# Altium schematic symbol library WE-PF.SchLib: 9 symbols
Pins are listed as number, name and electrical type; pins without a type are passive.

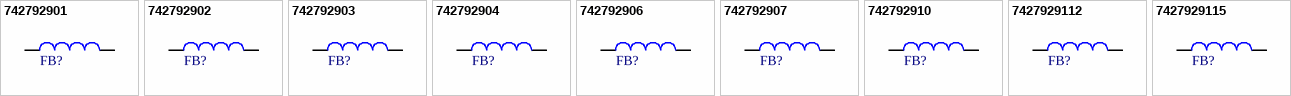
[diagram p0: symbols 742792901 to 7427929115]

## 742792901
designator FB?, comment 2900Ohm  (value not drawn)
WE-PF SMT EMI Suppression Power Ferrite, size 1280, 2900Ohm, 10A; Manufacturer Part Number: 742792901; Manufacturer: Wurth Elektronik; Case/Size Code: 1280; DC Resistance Max: 9mOhm; Impedance Max Test Condition: 90MHz; Category: Ferrites for PCB Assembly; Match Code: WE-PF; ComponentLink1Description: Website Link; ComponentLink1URL: https://www.we-online.com/redexpert/article/742792901?ad; ComponentLink2Description: Datasheet Link; ComponentLink2URL: https://www.we-online.com/redexpert/spec/742792901?ad; Mount: Surface Mount; Operating Temperature Max: 125°C; Operating Temperature Min: -40°C; Packaging: Tape and Reel; Length: 12mm; Width: 12mm; Height: 8mm; Impedance Max: 2900Ohm; Rated Current: 10A
footprint WE-PF_1280
simulation model 1280_742792901_1180ohm
pins: 1, 2

## 742792902
designator FB?, comment 5000Ohm  (value not drawn)
WE-PF SMT EMI Suppression Power Ferrite, size 1280, 5000Ohm, 8A; Manufacturer Part Number: 742792902; Manufacturer: Wurth Elektronik; Case/Size Code: 1280; DC Resistance Max: 12mOhm; Impedance Max Test Condition: 70MHz; Category: Ferrites for PCB Assembly; Match Code: WE-PF; ComponentLink1Description: Website Link; ComponentLink1URL: https://www.we-online.com/redexpert/article/742792902?ad; ComponentLink2Description: Datasheet Link; ComponentLink2URL: https://www.we-online.com/redexpert/spec/742792902?ad; Mount: Surface Mount; Operating Temperature Max: 125°C; Operating Temperature Min: -40°C; Packaging: Tape and Reel; Length: 12mm; Width: 12mm; Height: 8mm; Impedance Max: 5000Ohm; Rated Current: 8A
footprint WE-PF_1280
simulation model 1280_742792902_565ohm
pins: 1, 2

## 742792903
designator FB?, comment 6000Ohm  (value not drawn)
WE-PF SMT EMI Suppression Power Ferrite, size 1280, 6000Ohm, 10A; Manufacturer Part Number: 742792903; Manufacturer: Wurth Elektronik; Case/Size Code: 1280; DC Resistance Max: 9mOhm; Impedance Max Test Condition: 37MHz; Category: Ferrites for PCB Assembly; Match Code: WE-PF; ComponentLink1Description: Website Link; ComponentLink1URL: https://www.we-online.com/redexpert/article/742792903?ad; ComponentLink2Description: Datasheet Link; ComponentLink2URL: https://www.we-online.com/redexpert/spec/742792903?ad; Mount: Surface Mount; Operating Temperature Max: 125°C; Operating Temperature Min: -40°C; Packaging: Tape and Reel; Length: 12mm; Width: 12mm; Height: 8mm; Impedance Max: 6000Ohm; Rated Current: 10A
footprint WE-PF_1280
simulation model 1280_742792903_340ohm
pins: 1, 2

## 742792904
designator FB?, comment 7000Ohm  (value not drawn)
WE-PF SMT EMI Suppression Power Ferrite, size 1280, 7000Ohm, 7A; Manufacturer Part Number: 742792904; Manufacturer: Wurth Elektronik; Case/Size Code: 1280; DC Resistance Max: 15mOhm; Impedance Max Test Condition: 30MHz; Category: Ferrites for PCB Assembly; Match Code: WE-PF; ComponentLink1Description: Website Link; ComponentLink1URL: https://www.we-online.com/redexpert/article/742792904?ad; ComponentLink2Description: Datasheet Link; ComponentLink2URL: https://www.we-online.com/redexpert/spec/742792904?ad; Mount: Surface Mount; Operating Temperature Max: 125°C; Operating Temperature Min: -40°C; Packaging: Tape and Reel; Length: 12mm; Width: 12mm; Height: 8mm; Impedance Max: 7000Ohm; Rated Current: 7A
footprint WE-PF_1280
simulation model 1280_742792904_300ohm
pins: 1, 2

## 742792906
designator FB?, comment 9000Ohm  (value not drawn)
WE-PF SMT EMI Suppression Power Ferrite, size 1280, 9000Ohm, 6.5A; Manufacturer Part Number: 742792906; Manufacturer: Wurth Elektronik; Case/Size Code: 1280; DC Resistance Max: 20mOhm; Impedance Max Test Condition: 25MHz; Category: Ferrites for PCB Assembly; Match Code: WE-PF; ComponentLink1Description: Website Link; ComponentLink1URL: https://www.we-online.com/redexpert/article/742792906?ad; ComponentLink2Description: Datasheet Link; ComponentLink2URL: https://www.we-online.com/redexpert/spec/742792906?ad; Mount: Surface Mount; Operating Temperature Max: 125°C; Operating Temperature Min: -40°C; Packaging: Tape and Reel; Length: 12mm; Width: 12mm; Height: 8mm; Impedance Max: 9000Ohm; Rated Current: 6.5A
footprint WE-PF_1280
simulation model 1280_742792906_190ohm
pins: 1, 2

## 742792907
designator FB?, comment 7500Ohm  (value not drawn)
WE-PF SMT EMI Suppression Power Ferrite, size 1280, 7500Ohm, 6A; Manufacturer Part Number: 742792907; Manufacturer: Wurth Elektronik; Case/Size Code: 1280; DC Resistance Max: 20mOhm; Impedance Max Test Condition: 20MHz; Category: Ferrites for PCB Assembly; Match Code: WE-PF; ComponentLink1Description: Website Link; ComponentLink1URL: https://www.we-online.com/redexpert/article/742792907?ad; ComponentLink2Description: Datasheet Link; ComponentLink2URL: https://www.we-online.com/redexpert/spec/742792907?ad; Mount: Surface Mount; Operating Temperature Max: 125°C; Operating Temperature Min: -40°C; Packaging: Tape and Reel; Length: 12mm; Width: 12mm; Height: 8mm; Impedance Max: 7500Ohm; Rated Current: 6A
footprint WE-PF_1280
simulation model 1280_742792907_240ohm
pins: 1, 2

## 742792910
designator FB?, comment 8000Ohm  (value not drawn)
WE-PF SMT EMI Suppression Power Ferrite, size 1280, 8000Ohm, 5.5A; Manufacturer Part Number: 742792910; Manufacturer: Wurth Elektronik; Case/Size Code: 1280; DC Resistance Max: 25mOhm; Impedance Max Test Condition: 20MHz; Category: Ferrites for PCB Assembly; Match Code: WE-PF; ComponentLink1Description: Website Link; ComponentLink1URL: https://www.we-online.com/redexpert/article/742792910?ad; ComponentLink2Description: Datasheet Link; ComponentLink2URL: https://www.we-online.com/redexpert/spec/742792910?ad; Mount: Surface Mount; Operating Temperature Max: 125°C; Operating Temperature Min: -40°C; Packaging: Tape and Reel; Length: 12mm; Width: 12mm; Height: 8mm; Impedance Max: 8000Ohm; Rated Current: 5.5A
footprint WE-PF_1280
simulation model 1280_742792910_200ohm
pins: 1, 2

## 7427929112
designator FB?, comment 13000Ohm  (value not drawn)
WE-PF SMT EMI Suppression Power Ferrite, size 1280, 13000Ohm, 5A; Manufacturer Part Number: 7427929112; Manufacturer: Wurth Elektronik; Case/Size Code: 1280; DC Resistance Max: 25mOhm; Impedance Max Test Condition: 15MHz; Category: Ferrites for PCB Assembly; Match Code: WE-PF; ComponentLink1Description: Website Link; ComponentLink1URL: https://www.we-online.com/redexpert/article/7427929112?ad; ComponentLink2Description: Datasheet Link; ComponentLink2URL: https://www.we-online.com/redexpert/spec/7427929112?ad; Mount: Surface Mount; Operating Temperature Max: 125°C; Operating Temperature Min: -40°C; Packaging: Tape and Reel; Length: 12mm; Width: 12mm; Height: 8mm; Impedance Max: 13000Ohm; Rated Current: 5A
footprint WE-PF_1280
simulation model 1280_7427929112_200ohm
pins: 1, 2

## 7427929115
designator FB?, comment 15000Ohm  (value not drawn)
WE-PF SMT EMI Suppression Power Ferrite, size 1280, 15000Ohm, 4.5A; Manufacturer Part Number: 7427929115; Manufacturer: Wurth Elektronik; Case/Size Code: 1280; DC Resistance Max: 30mOhm; Impedance Max Test Condition: 15MHz; Category: Ferrites for PCB Assembly; Match Code: WE-PF; ComponentLink1Description: Website Link; ComponentLink1URL: https://www.we-online.com/redexpert/article/7427929115?ad; ComponentLink2Description: Datasheet Link; ComponentLink2URL: https://www.we-online.com/redexpert/spec/7427929115?ad; Mount: Surface Mount; Operating Temperature Max: 125°C; Operating Temperature Min: -40°C; Packaging: Tape and Reel; Length: 12mm; Width: 12mm; Height: 8mm; Impedance Max: 15000Ohm; Rated Current: 4.5A
footprint WE-PF_1280
simulation model 1280_7427929115_185ohm
pins: 1, 2